# Altium footprint library BMI160.PcbLib: 3 footprints
Each footprint in its own frame and in the unit in brackets; x right, y up, seen from the top. Pads: shape width x height; smd on the part's side, far side on the other; paste and mask are expansions set on the pad; w line width, h text height; cw(c..) or ccw(c..) is an arc to the next point about the centre after c.
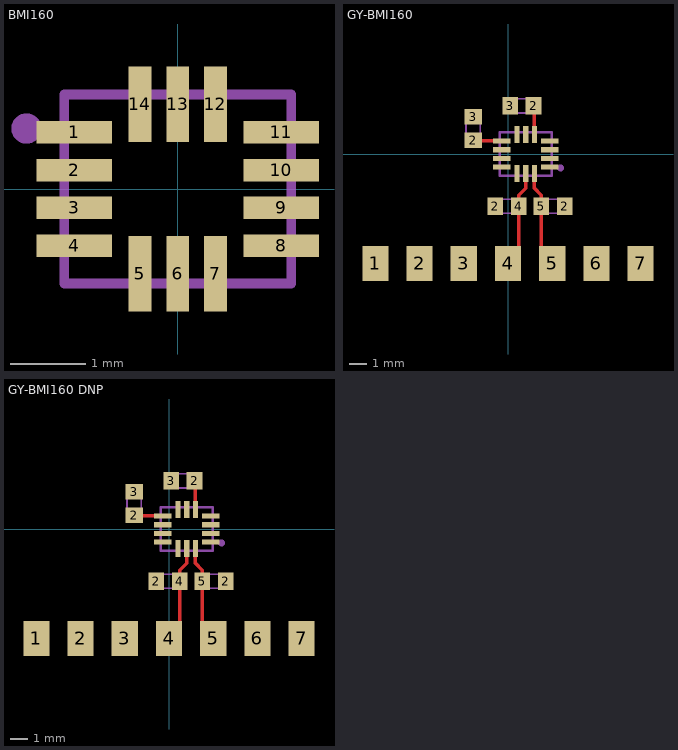
[diagram p0: the footprints below, top view; thin cyan lines are the x and y axes]

## BMI160 [mm]
pads (14):
  rect 1x0.3 smd: 1(-1.369,0.75) 2(-1.369,0.25) 3(-1.369,-0.25) 4(-1.369,-0.75) 8(1.369,-0.75) 9(1.369,-0.25) 10(1.369,0.25) 11(1.369,0.75)
  rect 0.3x1 smd: 5(-0.5,-1.119) 6(0,-1.119) 7(0.5,-1.119) 12(0.5,1.119) 13(0,1.119) 14(-0.5,1.119)
Mechanical 1:
  circle w0.2: c-2,0.8 r0.1
  lines w0.127: -1.5,-1.25 -1.5,1.25 1.5,1.25 1.5,-1.25 -1.5,-1.25
3D body "BMI160--3DModel-STEP-1 v1.step": height 0.89, standoff 0, extent -1.5,-1.25 1.5,1.25

## GY-BMI160 [mm]
pads (29):
  rect 1.5x2 smd: 1(-7.62,-6.29) 2(-5.08,-6.29) 3(-2.54,-6.29) 4(0,-6.29) 5(2.54,-6.29) 6(5.08,-6.29) 7(7.62,-6.29)
  rect 1x0.9 smd: 2(-2,0.8) 3(-2,2.15)
  rect 0.9x1 smd: 2(-0.73,-3) 2(1.47,2.77) 2(3.27,-3) 3(0.12,2.77) 4(0.62,-3) 5(1.92,-3)
  rect 1x0.3 smd: 2(-0.349,0.75) 7(2.389,-0.75) NC(-0.349,-0.75) NC(-0.349,-0.25) NC(-0.349,0.25) NC(2.389,-0.25) NC(2.389,0.25) NC(2.389,0.75)
  rect 0.3x1 smd: 2(1.52,1.119) 3(0.52,1.119) 3(1.02,1.119) 4(1.02,-1.119) 5(1.52,-1.119) 6(0.52,-1.119)
Top Layer:
  lines w0.2: -1.925,0.75 -0.349,0.75 ; 0.62,-5.63 0.62,-2.36 1.02,-1.96 1.02,-1.119 ; 1.52,-1.119 1.52,-1.96 1.92,-2.36 1.92,-5.63 ; 1.52,1.119 1.52,2.72 ; 2.079,-5.4 2.4,-5.4
Mechanical 1:
  circle w0.2: c3.02,-0.8 r0.1
  lines w0.1: -2.412,0.675 -1.588,0.675 -1.588,2.275 -2.412,2.275 -2.412,0.675 ; -0.855,-3.4 0.745,-3.4 0.745,-2.6 -0.855,-2.6 -0.855,-3.4 ; -0.005,2.358 -0.005,3.182 1.595,3.182 1.595,2.358 -0.005,2.358 ; 1.795,-3.4 1.795,-2.6 3.395,-2.6 3.395,-3.4 1.795,-3.4
  lines w0.127: -0.48,-1.25 -0.48,1.25 2.52,1.25 2.52,-1.25 -0.48,-1.25
3D body "GY-BMI160 Kesilmiþ.step": height 3.06, standoff 0.01, extent -8.8,-5.8 9.2,5.78

## GY-BMI160 DNP [mm]
pads (29):
  rect 1.5x2 smd: 1(-7.62,-6.29) 2(-5.08,-6.29) 3(-2.54,-6.29) 4(0,-6.29) 5(2.54,-6.29) 6(5.08,-6.29) 7(7.62,-6.29)
  rect 1x0.9 smd: 2(-2,0.8) 3(-2,2.15)
  rect 0.9x1 smd: 2(-0.73,-3) 2(1.47,2.77) 2(3.27,-3) 3(0.12,2.77) 4(0.62,-3) 5(1.92,-3)
  rect 1x0.3 smd: 2(-0.349,0.75) 7(2.389,-0.75) NC(-0.349,-0.75) NC(-0.349,-0.25) NC(-0.349,0.25) NC(2.389,-0.25) NC(2.389,0.25) NC(2.389,0.75)
  rect 0.3x1 smd: 2(1.52,1.119) 3(0.52,1.119) 3(1.02,1.119) 4(1.02,-1.119) 5(1.52,-1.119) 6(0.52,-1.119)
Top Layer:
  lines w0.2: -1.925,0.75 -0.349,0.75 ; 0.62,-5.63 0.62,-2.36 1.02,-1.96 1.02,-1.119 ; 1.52,-1.119 1.52,-1.96 1.92,-2.36 1.92,-5.63 ; 1.52,1.119 1.52,2.72 ; 2.079,-5.4 2.4,-5.4
Mechanical 1:
  circle w0.2: c3.02,-0.8 r0.1
  lines w0.1: -2.412,0.675 -1.588,0.675 -1.588,2.275 -2.412,2.275 -2.412,0.675 ; -0.855,-3.4 0.745,-3.4 0.745,-2.6 -0.855,-2.6 -0.855,-3.4 ; -0.005,2.358 -0.005,3.182 1.595,3.182 1.595,2.358 -0.005,2.358 ; 1.795,-3.4 1.795,-2.6 3.395,-2.6 3.395,-3.4 1.795,-3.4
  lines w0.127: -0.48,-1.25 -0.48,1.25 2.52,1.25 2.52,-1.25 -0.48,-1.25
3D body "0603 resistor.STEP": height 0.45, standoff 0, extent 1.795,-3.4 3.395,-2.6
3D body "0603 resistor.STEP": height 0.45, standoff 0, extent -0.855,-3.4 0.745,-2.6
3D body "0603 cap.STEP": height 0.82, standoff 0, extent -0.005,2.358 1.595,3.182
3D body "0603 cap.STEP": height 0.82, standoff 0, extent -2.412,0.675 -1.588,2.275
3D body "BMI160--3DModel-STEP-1 v1.step": height 0.89, standoff 0, extent -0.48,-1.25 2.52,1.25